# Altium schematic symbol library 691 244 500 0xx.SchLib: 8 symbols
Pins are listed as number, name and electrical type; pins without a type are passive.

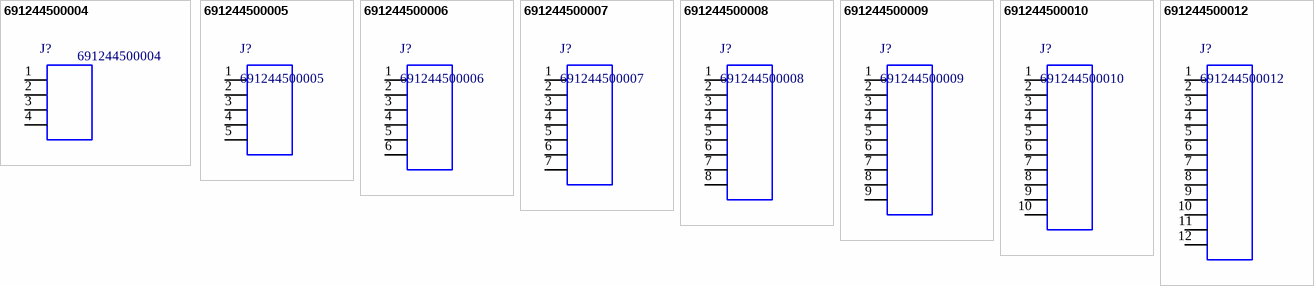
[diagram p0: symbols 691244500004 to 691244500012]

## 691244500004
designator J?
WR-TBL Vertical Cable Entry With Rising Cage Clamp,Serie 2445 - 5.08 mm; Manufacturer: Wurth Elektronik; ComponentLink1 Description: Manufacturer; ComponentLink2 Description: Datasheet; ComponentLink1URL: http://www.we-online.de; ComponentLink2URL: http://katalog.we-online.de/em/datasheet/6912445000XX.pdf; Created by: Baojun Chen; Created Date: 12.Sep.2015; partNo: 691244500004; Value: 691244500004
footprint 691244500004 (Serie 2445 - 5.08 mm _ 4 pins)
pins: 1, 2, 3, 4

## 691244500005
designator J?
WR-TBL Vertical Cable Entry With Rising Cage Clamp,Serie 2445 - 5.08 mm; Manufacturer: Wurth Elektronik; ComponentLink1 Description: Manufacturer; ComponentLink2 Description: Datasheet; ComponentLink1URL: http://www.we-online.de; ComponentLink2URL: http://katalog.we-online.de/em/datasheet/6912445000XX.pdf; Created by: Baojun Chen; Created Date: 12.Sep.2015; partNo: 691244500005; Value: 691244500005
footprint 691244500005 (Serie 2445 - 5.08 mm _ 5 pins)
pins: 1, 2, 3, 4, 5

## 691244500006
designator J?
WR-TBL Vertical Cable Entry With Rising Cage Clamp,Serie 2445 - 5.08 mm; Manufacturer: Wurth Elektronik; ComponentLink1 Description: Manufacturer; ComponentLink2 Description: Datasheet; ComponentLink1URL: http://www.we-online.de; ComponentLink2URL: http://katalog.we-online.de/em/datasheet/6912445000XX.pdf; Created by: Baojun Chen; Created Date: 12.Sep.2015; partNo: 691244500006; Value: 691244500006
footprint 691244500006 (Serie 2445 - 5.08 mm _ 6 pins)
pins: 1, 2, 3, 4, 5, 6

## 691244500007
designator J?
WR-TBL Vertical Cable Entry With Rising Cage Clamp,Serie 2445 - 5.08 mm; Manufacturer: Wurth Elektronik; ComponentLink1 Description: Manufacturer; ComponentLink2 Description: Datasheet; ComponentLink1URL: http://www.we-online.de; ComponentLink2URL: http://katalog.we-online.de/em/datasheet/6912445000XX.pdf; Created by: Baojun Chen; Created Date: 12.Sep.2015; partNo: 691244500007; Value: 691244500007
footprint 691244500007 (Serie 2445 - 5.08 mm _ 7 pins)
pins: 1, 2, 3, 4, 5, 6, 7

## 691244500008
designator J?
WR-TBL Vertical Cable Entry With Rising Cage Clamp,Serie 2445 - 5.08 mm; Manufacturer: Wurth Elektronik; ComponentLink1 Description: Manufacturer; ComponentLink2 Description: Datasheet; ComponentLink1URL: http://www.we-online.de; ComponentLink2URL: http://katalog.we-online.de/em/datasheet/6912445000XX.pdf; Created by: Baojun Chen; Created Date: 12.Sep.2015; partNo: 691244500008; Value: 691244500008
footprint 691244500008 (Serie 2445 - 5.08 mm _ 8 pins)
pins: 1, 2, 3, 4, 5, 6, 7, 8

## 691244500009
designator J?
WR-TBL Vertical Cable Entry With Rising Cage Clamp,Serie 2445 - 5.08 mm; Manufacturer: Wurth Elektronik; ComponentLink1 Description: Manufacturer; ComponentLink2 Description: Datasheet; ComponentLink1URL: http://www.we-online.de; ComponentLink2URL: http://katalog.we-online.de/em/datasheet/6912445000XX.pdf; Created by: Baojun Chen; Created Date: 12.Sep.2015; partNo: 691244500009; Value: 691244500009
footprint 691244500009 (Serie 2445 - 5.08 mm _ 9 pins)
pins: 1, 2, 3, 4, 5, 6, 7, 8, 9

## 691244500010
designator J?
WR-TBL Vertical Cable Entry With Rising Cage Clamp,Serie 2445 - 5.08 mm; Manufacturer: Wurth Elektronik; ComponentLink1 Description: Manufacturer; ComponentLink2 Description: Datasheet; ComponentLink1URL: http://www.we-online.de; ComponentLink2URL: http://katalog.we-online.de/em/datasheet/6912445000XX.pdf; Created by: Baojun Chen; Created Date: 12.Sep.2015; partNo: 691244500010; Value: 691244500010
footprint 691244500010 (Serie 2445 - 5.08 mm _ 10 pins)
pins: 1, 2, 3, 4, 5, 6, 7, 8, 9, 10

## 691244500012
designator J?
WR-TBL Vertical Cable Entry With Rising Cage Clamp,Serie 2445 - 5.08 mm; Manufacturer: Wurth Elektronik; ComponentLink1 Description: Manufacturer; ComponentLink2 Description: Datasheet; ComponentLink1URL: http://www.we-online.de; ComponentLink2URL: http://katalog.we-online.de/em/datasheet/6912445000XX.pdf; Created by: Baojun Chen; Created Date: 12.Sep.2015; partNo: 691244500012; Value: 691244500012
footprint 691244500012 (Serie 2445 - 5.08 mm _ 12 pins)
pins: 1, 2, 3, 4, 5, 6, 7, 8, 9, 10, 11, 12